# Altium schematic symbol library Molex_2mm_14pin.SchLib: 1 symbol
Pins are listed as number, name and electrical type; pins without a type are passive.

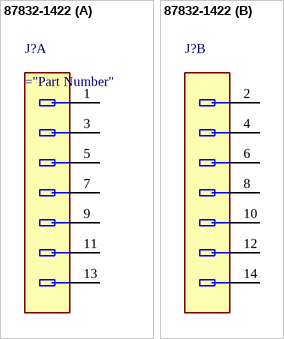
[diagram p0: symbol 87832-1422]

## 87832-1422
designator J?  (value not drawn)
part A pins: 1, 3, 5, 7, 9, 11, 13
part B pins: 2, 4, 6, 8, 10, 12, 14